# EAGLE library part 1267-120 (library con-commcon)
.800" BOARD SPACE 2mm CONNECTORS - HI TEMP FOUR ROW 2mm - STACKTHROUGH & NON-STACKTHROUGH
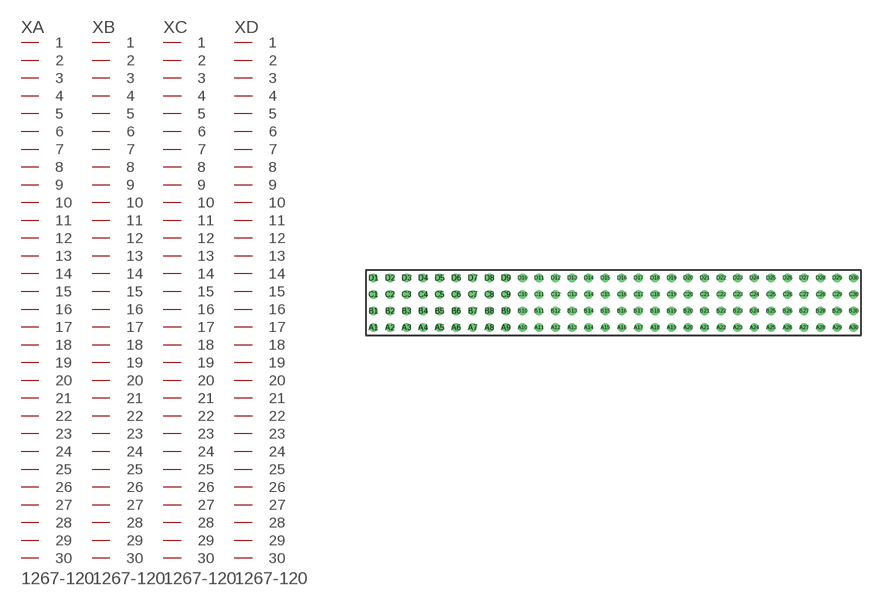
[diagram p1: symbol with the pads of 1267-120; footprint 1267-120]

Designator prefix X; gates A=PIN30 B=PIN30 C=PIN30 D=PIN30

## 1267-120 (OC_FARNELL: unknown; OC_NEWARK: unknown)  [1267-120]
A1  A:1  pas
A2  A:2  pas
A3  A:3  pas
A4  A:4  pas
A5  A:5  pas
A6  A:6  pas
A7  A:7  pas
A8  A:8  pas
A9  A:9  pas
A10  A:10  pas
A11  A:11  pas
A12  A:12  pas
A13  A:13  pas
A14  A:14  pas
A15  A:15  pas
A16  A:16  pas
A17  A:17  pas
A18  A:18  pas
A19  A:19  pas
A20  A:20  pas
A21  A:21  pas
A22  A:22  pas
A23  A:23  pas
A24  A:24  pas
A25  A:25  pas
A26  A:26  pas
A27  A:27  pas
A28  A:28  pas
A29  A:29  pas
A30  A:30  pas
B1  B:1  pas
B2  B:2  pas
B3  B:3  pas
B4  B:4  pas
B5  B:5  pas
B6  B:6  pas
B7  B:7  pas
B8  B:8  pas
B9  B:9  pas
B10  B:10  pas
B11  B:11  pas
B12  B:12  pas
B13  B:13  pas
B14  B:14  pas
B15  B:15  pas
B16  B:16  pas
B17  B:17  pas
B18  B:18  pas
B19  B:19  pas
B20  B:20  pas
B21  B:21  pas
B22  B:22  pas
B23  B:23  pas
B24  B:24  pas
B25  B:25  pas
B26  B:26  pas
B27  B:27  pas
B28  B:28  pas
B29  B:29  pas
B30  B:30  pas
C1  C:1  pas
C2  C:2  pas
C3  C:3  pas
C4  C:4  pas
C5  C:5  pas
C6  C:6  pas
C7  C:7  pas
C8  C:8  pas
C9  C:9  pas
C10  C:10  pas
C11  C:11  pas
C12  C:12  pas
C13  C:13  pas
C14  C:14  pas
C15  C:15  pas
C16  C:16  pas
C17  C:17  pas
C18  C:18  pas
C19  C:19  pas
C20  C:20  pas
C21  C:21  pas
C22  C:22  pas
C23  C:23  pas
C24  C:24  pas
C25  C:25  pas
C26  C:26  pas
C27  C:27  pas
C28  C:28  pas
C29  C:29  pas
C30  C:30  pas
D1  D:1  pas
D2  D:2  pas
D3  D:3  pas
D4  D:4  pas
D5  D:5  pas
D6  D:6  pas
D7  D:7  pas
D8  D:8  pas
D9  D:9  pas
D10  D:10  pas
D11  D:11  pas
D12  D:12  pas
D13  D:13  pas
D14  D:14  pas
D15  D:15  pas
D16  D:16  pas
D17  D:17  pas
D18  D:18  pas
D19  D:19  pas
D20  D:20  pas
D21  D:21  pas
D22  D:22  pas
D23  D:23  pas
D24  D:24  pas
D25  D:25  pas
D26  D:26  pas
D27  D:27  pas
D28  D:28  pas
D29  D:29  pas
D30  D:30  pas

## Footprint 1267-120 (pad centres in mm)
.800" BOARD SPACE 2mm CONNECTORS - HI TEMP FOUR ROW 2mm - STACKTHROUGH & NON-STACKTHROUGH
drill 0.508: A1 -29,-3; A2 -27,-3; A3 -25,-3; A4 -23,-3; A5 -21,-3; A6 -19,-3; A7 -17,-3; A8 -15,-3; A9 -13,-3; A10 -11,-3; A11 -9,-3; A12 -7,-3; A13 -5,-3; A14 -3,-3; A15 -1,-3; A16 1,-3; A17 3,-3; A18 5,-3; A19 7,-3; A20 9,-3; A21 11,-3; A22 13,-3; A23 15,-3; A24 17,-3; A25 19,-3; A26 21,-3; A27 23,-3; A28 25,-3; A29 27,-3; A30 29,-3; B1 -29,-1; B2 -27,-1; B3 -25,-1; B4 -23,-1; B5 -21,-1; B6 -19,-1; B7 -17,-1; B8 -15,-1; B9 -13,-1; B10 -11,-1; B11 -9,-1; B12 -7,-1; B13 -5,-1; B14 -3,-1; B15 -1,-1; B16 1,-1; B17 3,-1; B18 5,-1; B19 7,-1; B20 9,-1; B21 11,-1; B22 13,-1; B23 15,-1; B24 17,-1; B25 19,-1; B26 21,-1; B27 23,-1; B28 25,-1; B29 27,-1; B30 29,-1; C1 -29,1; C2 -27,1; C3 -25,1; C4 -23,1; C5 -21,1; C6 -19,1; C7 -17,1; C8 -15,1; C9 -13,1; C10 -11,1; C11 -9,1; C12 -7,1; C13 -5,1; C14 -3,1; C15 -1,1; C16 1,1; C17 3,1; C18 5,1; C19 7,1; C20 9,1; C21 11,1; C22 13,1; C23 15,1; C24 17,1; C25 19,1; C26 21,1; C27 23,1; C28 25,1; C29 27,1; C30 29,1; D1 -29,3; D2 -27,3; D3 -25,3; D4 -23,3; D5 -21,3; D6 -19,3; D7 -17,3; D8 -15,3; D9 -13,3; D10 -11,3; D11 -9,3; D12 -7,3; D13 -5,3; D14 -3,3; D15 -1,3; D16 1,3; D17 3,3; D18 5,3; D19 7,3; D20 9,3; D21 11,3; D22 13,3; D23 15,3; D24 17,3; D25 19,3; D26 21,3; D27 23,3; D28 25,3; D29 27,3; D30 29,3